# Altium schematic symbol library Microcontroller.SchLib: 2 symbols
Pins are listed as number, name and electrical type; pins without a type are passive.

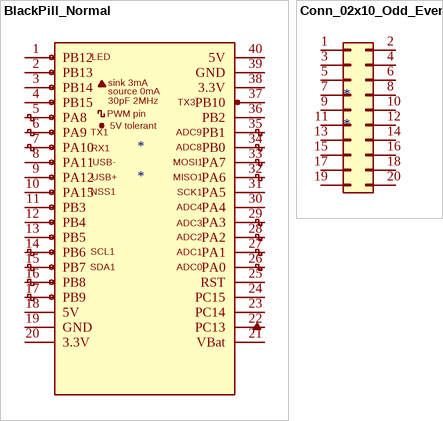
[diagram p0: symbols BlackPill_Normal to Conn_02x10_Odd_Even]

## BlackPill_Normal
designator *
pins: 1 PB12, 2 PB13, 3 PB14, 4 PB15, 5 PA8, 6 PA9, 7 PA10, 8 PA11, 9 PA12, 10 PA15, 11 PB3, 12 PB4, 13 PB5, 14 PB6, 15 PB7, 16 PB8, 17 PB9, 18 5V, 19 GND, 20 3.3V, 21 VBat, 22 PC13, 23 PC14, 24 PC15, 25 RST, 26 PA0, 27 PA1, 28 PA2, 29 PA3, 30 PA4, 31 PA5, 32 PA6, 33 PA7, 34 PB0, 35 PB1, 36 PB2, 37 PB10, 38 3.3V, 39 GND, 40 5V
text: LED; sink 3mA; source 0mA; 30pF 2MHz; TX3; PWM pin; 5V tolerant; TX1; ADC9; RX1; ADC8; USB-; MOSI1; USB+; MISO1; NSS1; SCK1; ADC4; ADC3; ADC2; SCL1; ADC1; SDA1; ADC0

## Conn_02x10_Odd_Even
designator *
pins: 1 Pin_1, 2 Pin_2, 3 Pin_3, 4 Pin_4, 5 Pin_5, 6 Pin_6, 7 Pin_7, 8 Pin_8, 9 Pin_9, 10 Pin_10, 11 Pin_11, 12 Pin_12, 13 Pin_13, 14 Pin_14, 15 Pin_15, 16 Pin_16, 17 Pin_17, 18 Pin_18, 19 Pin_19, 20 Pin_20